# EAGLE library part BQ51050B (library chips)
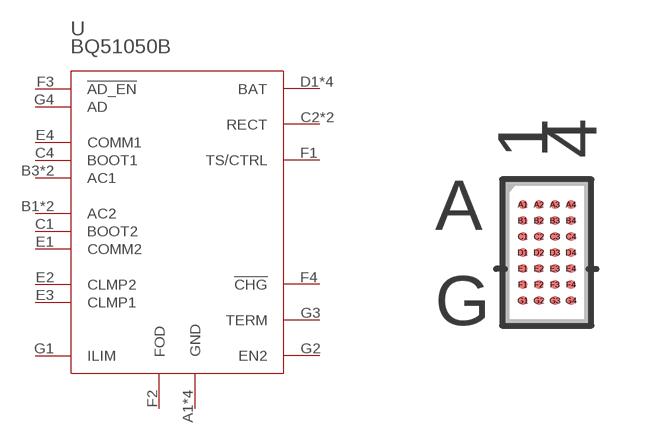
[diagram p100: symbol with the pads of YFP28; footprint YFP28]

Designator prefix U

## BQ51050B (BUILT_BY: EMA_UL_Team; MANUFACTURER_PART_NUMBER: BQ51050BYFPR; VENDOR: Texas Instruments)  [YFP28]
A1  GND  pwr
A2  GND  pwr
A3  GND  pwr
A4  GND  pwr
B1  AC2  in
B2  AC2  in
B3  AC1  in
B4  AC1  in
C1  BOOT2  out
C2  RECT  out
C3  RECT  out
C4  BOOT1  out
D1  BAT  out
D2  BAT  out
D3  BAT  out
D4  BAT  out
E1  COMM2  out
E2  CLMP2  out
E3  CLMP1  out
E4  COMM1  out
F1  TS/CTRL  in
F2  FOD  in
F3  !AD_EN  out
F4  !CHG  out
G1  ILIM
G2  EN2  in
G3  TERM  in
G4  AD  in

## Footprint YFP28 (pad centres in mm)
smd 0.229 x 0.229: A1 -0.6,1.2; A2 -0.2,1.2; A3 0.2,1.2; A4 0.6,1.2; B1 -0.6,0.8; B2 -0.2,0.8; B3 0.2,0.8; B4 0.6,0.8; C1 -0.6,0.4; C2 -0.2,0.4; C3 0.2,0.4; C4 0.6,0.4; D1 -0.6,0; D2 -0.2,0; D3 0.2,0; D4 0.6,0; E1 -0.6,-0.4; E2 -0.2,-0.4; E3 0.2,-0.4; E4 0.6,-0.4; F1 -0.6,-0.8; F2 -0.2,-0.8; F3 0.2,-0.8; F4 0.6,-0.8; G1 -0.6,-1.2; G2 -0.2,-1.2; G3 0.2,-1.2; G4 0.6,-1.2